# EAGLE library part TPS54202 (library angrypig7-IC-Power)
DC-DC Step-Down regulator 4.5~28V in 2A out 500Khz EMI friendly - frequency spread spectrum 148/78mΩ internal MOSFET 45uA quiescent current
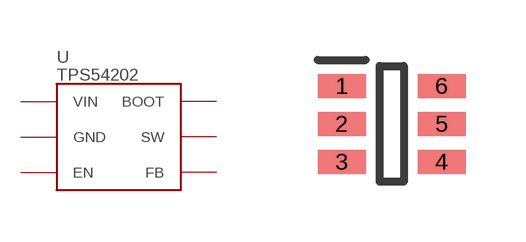
[diagram p3: symbol with the pads of SOT-23-6; footprint SOT-23-6]

Designator prefix U

## TPS54202  [SOT-23-6]
1  GND  pwr
2  SW  out
3  VIN  in
4  FB  in
5  EN  in
6  BOOT  out

## Footprint SOT-23-6 (pad centres in mm)
DBV (R-PDSO-G6)
smd 1.2 x 0.6: 1 -1.25,0.95; 2 -1.25,0; 3 -1.25,-0.95; 4 1.25,-0.95; 5 1.25,0; 6 1.25,0.95